# Altium footprint library Protection DC.PcbLib: 1 footprints
Each footprint in its own frame and in the unit in brackets; x right, y up, seen from the top. Pads: shape width x height; smd on the part's side, far side on the other; paste and mask are expansions set on the pad; w line width, h text height; cw(c..) or ccw(c..) is an arc to the next point about the centre after c.
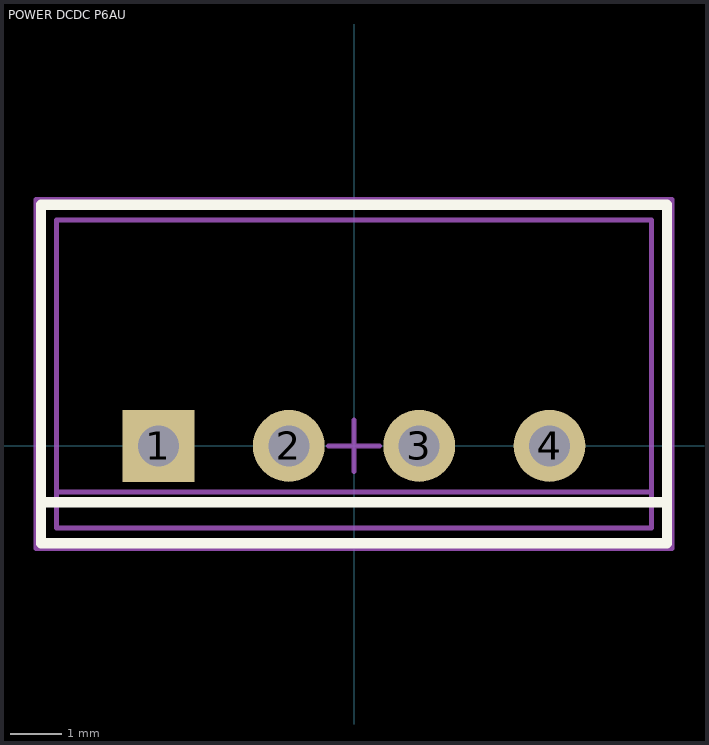
[diagram p0: the footprint, top view; thin cyan lines are the x and y axes]

## POWER DCDC P6AU [mm]
height 10.15
pads (4):
  rect 1.4x1.4 hole 0.8: 1(-3.81,0)
  round 1.4 hole 0.8: 2(-1.27,0) 3(1.27,0) 4(3.81,0)
Top Overlay:
  lines w0.2: -6.1,-1.1 6.1,-1.1 ; -6.1,-1.9 -6.1,4.7 6.1,4.7 6.1,-1.9 -6.1,-1.9
Top Package:
  circle w0.1: c3.81,0 r0.3
  circle w0.1: c-3.81,0 r0.3
  circle w0.1: c1.27,0 r0.3
  circle w0.1: c-1.27,0 r0.3
  lines w0.1: -5.8,-0.9 5.8,-0.9 ; -5.8,-1.6 5.8,-1.6 5.8,4.4 -5.8,4.4 -5.8,-1.6
Top Border:
  lines w0.1: -0.5,0 0.5,0 ; 0,-0.5 0,0.5 ; -6.2,-2 6.2,-2 6.2,4.8 -6.2,4.8 -6.2,-2
3D body: height 0.5, standoff -1.5, extent -4.07,-0.25 -3.572,0.249
3D body: height 0.5, standoff -1.5, extent -1.53,-0.25 -1.032,0.249
3D body: height 0.5, standoff -1.5, extent 1.01,-0.25 1.508,0.249
3D body: height 0.5, standoff -1.5, extent 3.55,-0.25 4.048,0.249
3D body: height 9.65, standoff 0, extent -5.8,-1.6 5.8,4.4